# EAGLE library part FTDI-2232HQ-M (library C3-Modules)
FTDI Dual Port USB Serial Interface Module
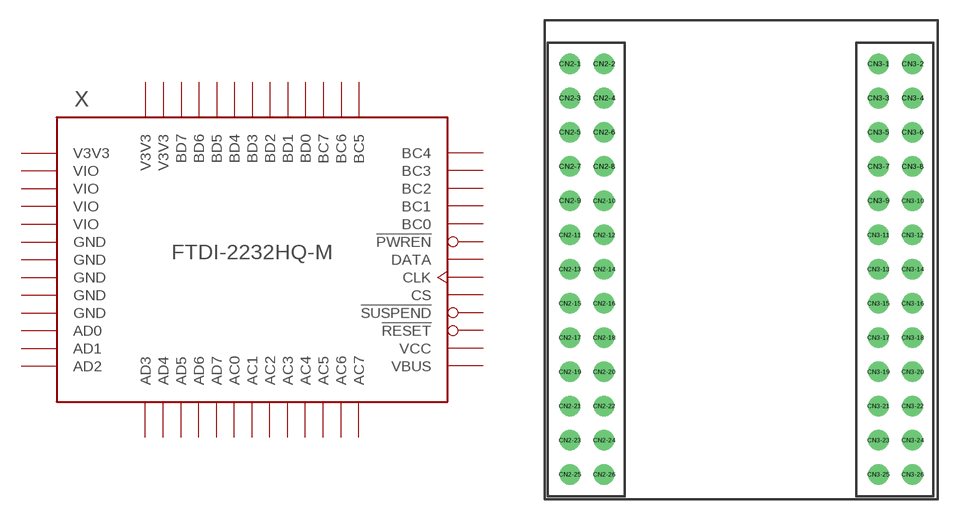
[diagram p0: symbol with the pads of FTDI-2232HQ-MINI-MODULE; footprint FTDI-2232HQ-MINI-MODULE]

Designator prefix X

## FTDI-2232HQ-M  [FTDI-2232HQ-MINI-MODULE]
CN2-1  V3V3  pas
CN2-2  GND  pas
CN2-3  V3V3  pas
CN2-4  GND  pas
CN2-5  V3V3  pas
CN2-6  GND  pas
CN2-7  AD0
CN2-8  !RESET  pas
CN2-9  AD2
CN2-10  AD1
CN2-11  VIO  pas
CN2-12  AD3
CN2-13  AD5
CN2-14  AD4
CN2-15  AD7
CN2-16  AD6
CN2-17  AC1
CN2-18  AC0
CN2-19  AC3
CN2-20  AC2
CN2-21  VIO  pas
CN2-22  AC4
CN2-23  AC6
CN2-24  AC5
CN2-25  !SUSPEND
CN2-26  AC7
CN3-1  VBUS  sup
CN3-2  GND  pas
CN3-3  VCC  pwr
CN3-4  GND  pas
CN3-5  CS
CN3-6  CLK
CN3-7  DATA
CN3-8  !PWREN
CN3-9  BC7
CN3-10  BC6
CN3-11  BC5
CN3-12  VIO  pas
CN3-13  BC4
CN3-14  BC3
CN3-15  BC2
CN3-16  BC1
CN3-17  BC0
CN3-18  BD7
CN3-19  BD6
CN3-20  BD5
CN3-21  BD4
CN3-22  VIO  pas
CN3-23  BD3
CN3-24  BD2
CN3-25  BD1
CN3-26  BD0

## Footprint FTDI-2232HQ-MINI-MODULE (pad centres in mm)
drill 1.016: CN2-1 -12.35,14.31; CN2-2 -9.81,14.31; CN2-3 -12.35,11.77; CN2-4 -9.81,11.77; CN2-5 -12.35,9.23; CN2-6 -9.81,9.23; CN2-7 -12.35,6.69; CN2-8 -9.81,6.69; CN2-9 -12.35,4.15; CN2-10 -9.81,4.15; CN2-11 -12.35,1.61; CN2-12 -9.81,1.61; CN2-13 -12.35,-0.93; CN2-14 -9.81,-0.93; CN2-15 -12.35,-3.47; CN2-16 -9.81,-3.47; CN2-17 -12.35,-6.01; CN2-18 -9.81,-6.01; CN2-19 -12.35,-8.55; CN2-20 -9.81,-8.55; CN2-21 -12.35,-11.09; CN2-22 -9.81,-11.09; CN2-23 -12.35,-13.63; CN2-24 -9.81,-13.63; CN2-25 -12.35,-16.17; CN2-26 -9.81,-16.17; CN3-1 10.54,14.31; CN3-2 13.08,14.31; CN3-3 10.54,11.77; CN3-4 13.08,11.77; CN3-5 10.54,9.23; CN3-6 13.08,9.23; CN3-7 10.54,6.69; CN3-8 13.08,6.69; CN3-9 10.54,4.15; CN3-10 13.08,4.15; CN3-11 10.54,1.61; CN3-12 13.08,1.61; CN3-13 10.54,-0.93; CN3-14 13.08,-0.93; CN3-15 10.54,-3.47; CN3-16 13.08,-3.47; CN3-17 10.54,-6.01; CN3-18 13.08,-6.01; CN3-19 10.54,-8.55; CN3-20 13.08,-8.55; CN3-21 10.54,-11.09; CN3-22 13.08,-11.09; CN3-23 10.54,-13.63; CN3-24 13.08,-13.63; CN3-25 10.54,-16.17; CN3-26 13.08,-16.17